# EAGLE library part 214-44-308-01-670800 (library ToneGenerator_Parts)
MILL MAX - 214-44-308-01-670800 - SOCKET, DIL, 8 WAY, 0.3MM Source: Datasheet <https://www.mill-max.com/assets/pdfs/108.pdf>
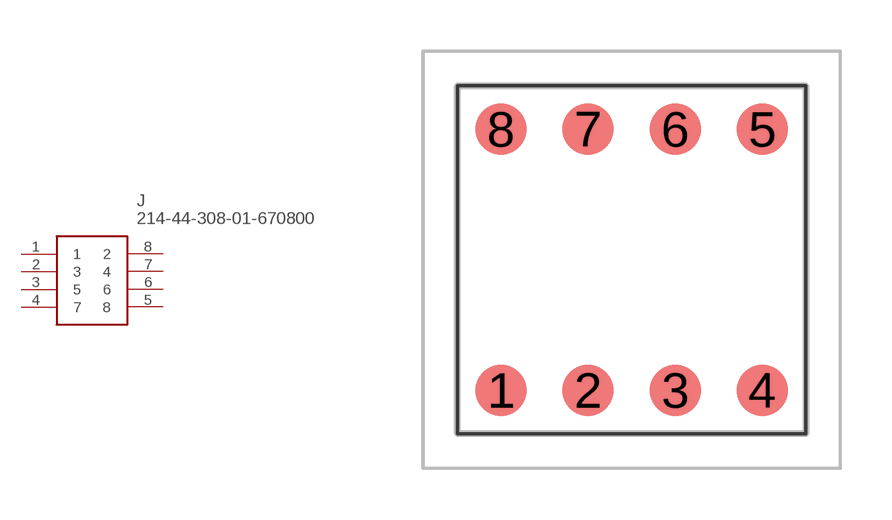
[diagram p0: symbol with the pads of 2144430801670800; footprint 2144430801670800]

Designator prefix J

## 214-44-308-01-670800 (DESCRIPTION: MILL MAX - 214-44-308-01-670800 - SOCKET, DIL, 8 WAY, 0.3MM; HEIGHT: 4.2164mm; MANUFACTURER_NAME: Mill-Max; MANUFACTURER_PART_NUMBER: 214-44-308-01-670800; MOUSER_PART_NUMBER: 575-4430801; MOUSER_PRICE-STOCK: https://www.mouser.com/Search/Refine.aspx?Keyword=575-4430801)  [2144430801670800]
1  1
2  3
3  5
4  7
5  8
6  6
7  4
8  2

## Footprint 2144430801670800 (pad centres in mm)
214-44-308-01-670800-4
smd 1.499 x 1.499: 1 -3.81,-3.81; 2 -1.27,-3.81; 3 1.27,-3.81; 4 3.81,-3.81; 5 3.81,3.81; 6 1.27,3.81; 7 -1.27,3.81; 8 -3.81,3.81